# Altium schematic symbol library TPS61085DGK.SchLib: 1 symbol
Pins are listed as number, name and electrical type; pins without a type are passive.

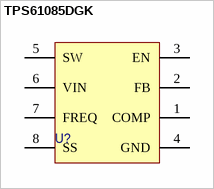
[diagram p0: symbol TPS61085DGK]

## TPS61085DGK
designator U?  (value not drawn)
pins: 1 COMP, 2 FB, 3 EN, 4 GND, 5 SW, 6 VIN, 7 FREQ, 8 SS